# EAGLE library part IRF5801 (library lfpak.mosfet)
HEXFET Power MOSFET Parameters VDSS - 200V RDS(on) - 2.2Ohm max ID - 0.6A Applications - High frequency DC-DC converters Benefits - Low Gate to Drain Charge to Reduce Switching Losses - Fully Characterized Capacitance IncludingEffective COSS to Simplify Design, (See App. Note AN1001) - Fully Characterized Avalanche Voltage and Current Package: TSOP-6
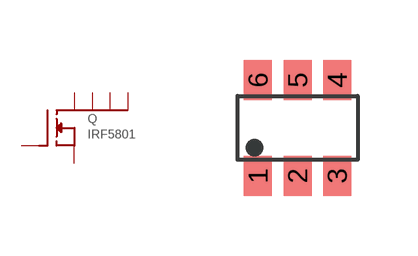
[diagram p5: symbol with the pads of TSOP-6; footprint TSOP-6]

Designator prefix Q

## IRF5801 (MPN: IRF5801TRPBF; OC_FARNELL: 1298504; PACKAGE: TSOP6; SUPPLIER: IR)  [TSOP-6]
1  D1
2  D2
3  G
4  S
5  D4
6  D3

## Footprint TSOP-6 (pad centres in mm)
TSOP-5 PLASTIC PACKAGE CASE 483-02 Source: http://www.onsemi.com/pub/Collateral/MC34164-D.PDF
smd 0.7 x 1: 1 -0.99,-1.2; 2 0,-1.2; 3 0.99,-1.2; 4 0.99,1.2; 5 0,1.201; 6 -0.99,1.2